# Altium schematic symbol library SJ-63062A.SchLib: 1 symbol
Pins are listed as number, name and electrical type; pins without a type are passive.

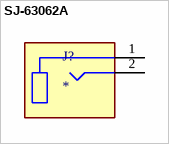
[diagram p0: symbol SJ-63062A]

## SJ-63062A
designator J?
6.35 mm, Mono, Right Angle, Through Hole, 2 Conductors, 0 Internal Switches, Audio Jack Connector; MF: Same Sky; MP: SJ-63062A; SnapEDA_Link: https://www.snapeda.com/parts/SJ-63062A/Same+Sky/view-part/?ref=snap; Package: None; Value: *; Check_prices: https://www.snapeda.com/parts/SJ-63062A/Same+Sky/view-part/?ref=eda
footprint CUI_SJ-63062A
pins: 1 SLEEVE, 2 TIP